# EAGLE library part SBH11-NBPC-D05 (library con-sullins)
HEADER - Vertical, Shrouded
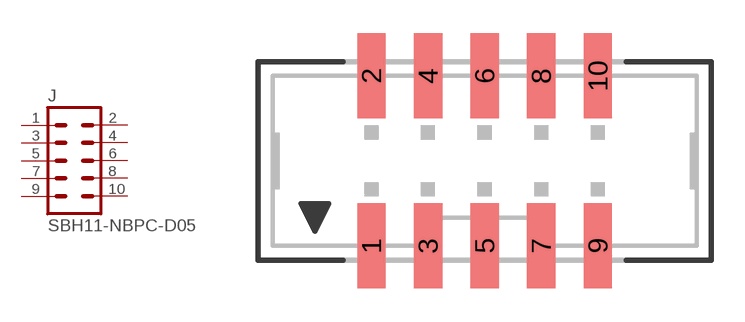
[diagram p20: symbol with the pads of SBH11-NBPC-D05; footprint SBH11-NBPC-D05]

Designator prefix J

## SBH11-NBPC-D05  [SBH11-NBPC-D05]
1  1  pas
2  2  pas
3  3  pas
4  4  pas
5  5  pas
6  6  pas
7  7  pas
8  8  pas
9  9  pas
10  10  pas

## Footprint SBH11-NBPC-D05 (pad centres in mm)
SMD HEADER - 0.1", Shrouded, Vertical
smd 1.27 x 3.81: 1 -5.08,-3.81; 2 -5.08,3.81; 3 -2.54,-3.81; 4 -2.54,3.81; 5 0,-3.81; 6 0,3.81; 7 2.54,-3.81; 8 2.54,3.81; 9 5.08,-3.81; 10 5.08,3.81